# Altium integrated library THGBMNG5D1LBAIL.IntLib: 1 symbol
Pins are listed as number, name and electrical type; pins without a type are passive.

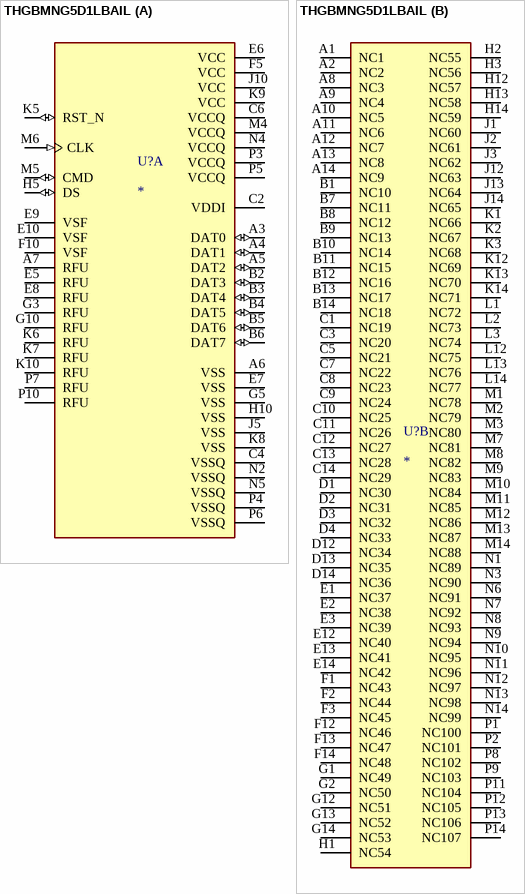
[diagram p0: symbol THGBMNG5D1LBAIL]

## THGBMNG5D1LBAIL
designator U?
FLASH - NAND (MLC) Memory IC 32Gb (4G x 8) eMMC 200MHz 153-WFBGA (11.5x13); MF: Toshiba Memory; MP: THGBMNG5D1LBAIL; Value: *; Availability: Bad; SnapEDA_Link: https://www.snapeda.com/parts/THGBMNG5D1LBAIL/Toshiba%20Memory%20America,%20Inc./view-part/2762876/?ref=snap; Check_prices: https://www.snapeda.com/parts/THGBMNG5D1LBAIL/Toshiba%20Memory%20America,%20Inc./view-part/2762876/?ref=eda; Package: WFBGA-153 Toshiba Memory; Purchase-URL: https://pricing.snapeda.com/search/part/THGBMNG5D1LBAIL/?ref=eda; Price: None
footprint BGA153N50P14X14_1300X1150X80N
part A pins: A3 DAT0 (io), A4 DAT1 (io), A5 DAT2 (io), A6 VSS (power), A7 RFU, B2 DAT3 (io), B3 DAT4 (io), B4 DAT5 (io), B5 DAT6 (io), B6 DAT7 (io), C2 VDDI, C4 VSSQ (power), C6 VCCQ (power), E5 RFU, E6 VCC (power), E7 VSS (power), E8 RFU, E9 VSF, E10 VSF, F5 VCC (power), F10 VSF, G3 RFU, G5 VSS (power), G10 RFU, H5 DS (io), H10 VSS (power), J5 VSS (power), J10 VCC (power), K5 RST_N (io), K6 RFU, K7 RFU, K8 VSS (power), K9 VCC (power), K10 RFU, M4 VCCQ (power), M5 CMD (io), M6 CLK (in), N2 VSSQ (power), N4 VCCQ (power), N5 VSSQ (power), P3 VCCQ (power), P4 VSSQ (power), P5 VCCQ (power), P6 VSSQ (power), P7 RFU, P10 RFU
part B pins: A1 NC1, A2 NC2, A8 NC3, A9 NC4, A10 NC5, A11 NC6, A12 NC7, A13 NC8, A14 NC9, B1 NC10, B7 NC11, B8 NC12, B9 NC13, B10 NC14, B11 NC15, B12 NC16, B13 NC17, B14 NC18, C1 NC19, C3 NC20, C5 NC21, C7 NC22, C8 NC23, C9 NC24, C10 NC25, C11 NC26, C12 NC27, C13 NC28, C14 NC29, D1 NC30, D2 NC31, D3 NC32, D4 NC33, D12 NC34, D13 NC35, D14 NC36, E1 NC37, E2 NC38, E3 NC39, E12 NC40, E13 NC41, E14 NC42, F1 NC43, F2 NC44, F3 NC45, F12 NC46, F13 NC47, F14 NC48, G1 NC49, G2 NC50, G12 NC51, G13 NC52, G14 NC53, H1 NC54, H2 NC55, H3 NC56, H12 NC57, H13 NC58, H14 NC59, J1 NC60, J2 NC61, J3 NC62, J12 NC63, J13 NC64, J14 NC65, K1 NC66, K2 NC67, K3 NC68, K12 NC69, K13 NC70, K14 NC71, L1 NC72, L2 NC73, L3 NC74, L12 NC75, L13 NC76, L14 NC77, M1 NC78, M2 NC79, M3 NC80, M7 NC81, M8 NC82, M9 NC83, M10 NC84, M11 NC85, M12 NC86, M13 NC87, M14 NC88, N1 NC89, N3 NC90, N6 NC91, N7 NC92, N8 NC93, N9 NC94, N10 NC95, N11 NC96, N12 NC97, N13 NC98, N14 NC99, P1 NC100, P2 NC101, P8 NC102, P9 NC103, P11 NC104, P12 NC105, P13 NC106, P14 NC107